# Altium schematic symbol library WAVESHARE_RP2040-Zero.SchLib: 1 symbol
Pins are listed as number, name and electrical type; pins without a type are passive.

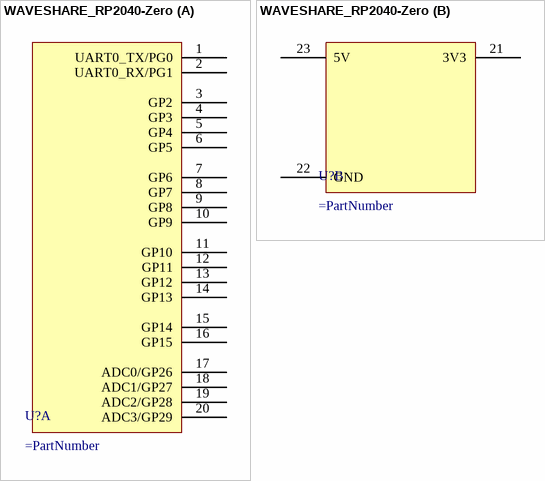
[diagram p0: symbol WAVESHARE_RP2040-Zero]

## WAVESHARE_RP2040-Zero
designator U?
part A pins: 1 UART0_TX/PG0, 2 UART0_RX/PG1, 3 GP2, 4 GP3, 5 GP4, 6 GP5, 7 GP6, 8 GP7, 9 GP8, 10 GP9, 11 GP10, 12 GP11, 13 GP12, 14 GP13, 15 GP14, 16 GP15, 17 ADC0/GP26, 18 ADC1/GP27, 19 ADC2/GP28, 20 ADC3/GP29
part B pins: 21 3V3, 22 GND, 23 5V